# Altium schematic symbol library A101SYZQ04.SchLib: 1 symbol
Pins are listed as number, name and electrical type; pins without a type are passive.

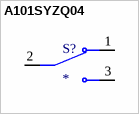
[diagram p0: symbol A101SYZQ04]

## A101SYZQ04
designator S?
Toggle Switch SPDT On-On 5 A@ 125 V ac Panel Mount | TE Connectivity A101SYZQ04; SnapEDA_Link: https://www.snapeda.com/parts/A101SYZQ04/TE+Connectivity+ALCOSWITCH+Switches/view-part/?ref=snap; Package: None; Value: *; MF: TE Connectivity; MP: A101SYZQ04; Check_prices: https://www.snapeda.com/parts/A101SYZQ04/TE+Connectivity+ALCOSWITCH+Switches/view-part/?ref=eda
footprint SW_A101SYZQ04
pins: 1, 2, 3